# Altium footprint library inductor_SMD.PcbLib: 2 footprints
Each footprint in its own frame and in the unit in brackets; x right, y up, seen from the top. Pads: shape width x height; smd on the part's side, far side on the other; paste and mask are expansions set on the pad; w line width, h text height; cw(c..) or ccw(c..) is an arc to the next point about the centre after c.
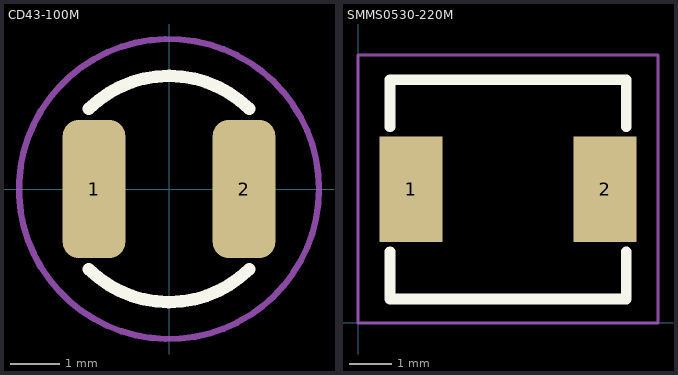
[diagram p0: the footprints below, top view; thin cyan lines are the x and y axes]

## CD43-100M [mil]
pads (2):
  rrect50% 50.05x110.42 smd paste+0 mask+2: 1(-60,0) 2(60,0)
Top Overlay:
  lines w10: -64.03,-64.03 ccw(c0,0) 64.03,-64.03 ; -64.03,64.03 cw(c0,0) 64.03,64.03
Mechanical 15:
  circle w5: c0,0 r120
3D body "CD43_inductor.STEP": height 125.98, standoff 0, extent -86.4,-88.58 86.4,88.58

## SMMS0530-220M [mm]
pads (2):
  rect 1.5x2.5 smd paste+0 mask+0.051: 1(1.258,3.168) 2(5.858,3.168)
Top Overlay:
  lines w0.254: 0.758,1.687 0.758,0.568 6.358,0.568 6.358,1.687 ; 0.758,4.649 0.758,5.768 6.358,5.768 6.358,4.649
Mechanical 15:
  lines w0.076: 0,0 7.112,0 7.112,6.35 0,6.35 0,0
3D body "PSMT5012.STEP": height 1.05, standoff -0.02, extent 0.486,0.575 6.626,5.775